# Altium schematic symbol library LT4356.SchLib: 1 symbol
Pins are listed as number, name and electrical type; pins without a type are passive.

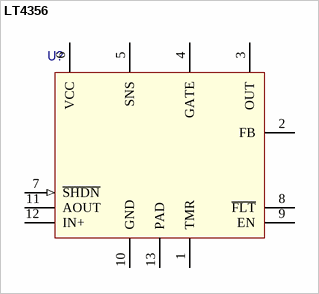
[diagram p0: symbol LT4356]

## LT4356
designator U?  (value not drawn)
footprint DFN-12 (Footprint not found)
pins: 1 TMR, 2 FB, 3 OUT, 4 GATE, 5 SNS, 6 VCC (power), 7 ~{SHDN} (in), 8 ~{FLT} (oc), 9 EN (oc), 10 GND (power), 11 AOUT, 12 IN+, 13 PAD
1 alternate drawing of the same symbol